# EAGLE library part INTERMEDIATE_FREQUENCY_TRANSFORMER (library Deegou_Discrete)
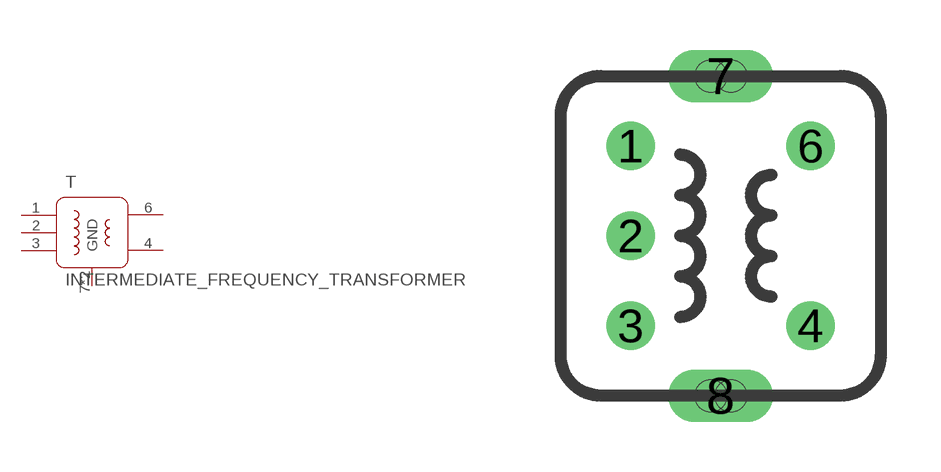
[diagram p5: symbol with the pads of INTERMEDIATE_FREQUENCY_TRANSFORMER; footprint INTERMEDIATE_FREQUENCY_TRANSFORMER]

Designator prefix T

## INTERMEDIATE_FREQUENCY_TRANSFORMER  [INTERMEDIATE_FREQUENCY_TRANSFORMER]
1  P$1
2  P$2
3  P$3
4  P$4
6  P$5
7  GND
8  GND

## Footprint INTERMEDIATE_FREQUENCY_TRANSFORMER (pad centres in mm)
drill 0.7: 1 -2.25,2.25; 2 -2.25,0; 3 -2.25,-2.25; 4 2.25,-2.25; 6 2.25,2.25
drill 0.8 long: 7 0,4; 8 0,-4